# EAGLE library part BLUETOOTH_DEVICE (library transistor-power)
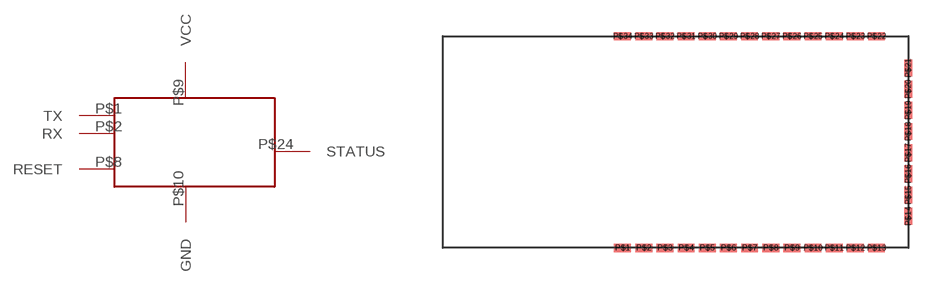
[diagram p9: symbol with the pads of BLUETOOTH_PACKAGE; footprint BLUETOOTH_PACKAGE]

Designator prefix -

## BLUETOOTH_DEVICE  [BLUETOOTH_PACKAGE]
P$1  TX  out
P$2  RX  in
P$8  RESET  in
P$9  VCC  pwr
P$10  GND  pwr
P$24  STATUS  out

## Footprint BLUETOOTH_PACKAGE (pad centres in mm)
smd 1.016 x 0.508: P$1 -1.905,-1.27; P$2 -0.635,-1.27; P$3 0.635,-1.27; P$4 1.905,-1.27; P$5 3.175,-1.27; P$6 4.445,-1.27; P$7 5.715,-1.27; P$8 6.985,-1.27; P$9 8.255,-1.27; P$10 9.525,-1.27; P$11 10.795,-1.27; P$12 12.065,-1.27; P$13 13.335,-1.27; P$22 13.335,11.43; P$23 12.065,11.43; P$24 10.795,11.43; P$25 9.525,11.43; P$26 8.255,11.43; P$27 6.985,11.43; P$28 5.715,11.43; P$29 4.445,11.43; P$30 3.175,11.43; P$31 1.905,11.43; P$32 0.635,11.43; P$33 -0.635,11.43; P$34 -1.905,11.43
smd 0.508 x 1.016: P$14 15.24,0.635; P$15 15.24,1.905; P$16 15.24,3.175; P$17 15.24,4.445; P$18 15.24,5.715; P$19 15.24,6.985; P$20 15.24,8.255; P$21 15.24,9.525